# Altium footprint library SPHRD2L3DH20E7W41J.PcbLib: 3 footprints
Each footprint in its own frame and in the unit in brackets; x right, y up, seen from the top. Pads: shape width x height; smd on the part's side, far side on the other; paste and mask are expansions set on the pad; w line width, h text height; cw(c..) or ccw(c..) is an arc to the next point about the centre after c.
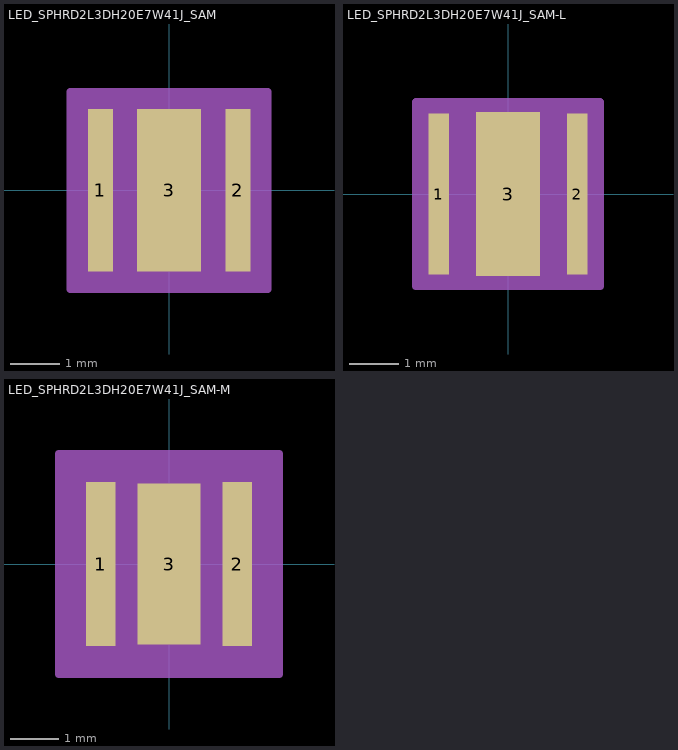
[diagram p0: the footprints below, top view; thin cyan lines are the x and y axes]

## LED_SPHRD2L3DH20E7W41J_SAM [mil]
pads (3):
  rect 20x130 smd paste+0 mask+0: 1(-55,0) 2(55,0)
  rect 51x130 smd paste+0 mask+0: 3(0,0)
Top Paste:
  region: 21.56,61.06 -21.56,61.06 -21.56,3.94 21.56,3.94
  region: 21.56,-3.94 -21.56,-3.94 -21.56,-61.06 21.56,-61.06
Mechanical 13:
  circle w0: c-45,0 r3
  lines w0: -12,69 ccw(c0,69) 12,69
  lines w1: -69,-69 69,-69 69,69 -69,69 -69,-69
Mechanical 15:
  region: -79,-75 -79,75 -79,79 79,79 79,75 79,-75 79,-79 -79,-79
  lines w6: -79,-75 -79,75 ; -79,-75 -79,-75 ; -79,-75 -79,-79 79,-79 79,-75 ; -79,75 -79,75 ; -79,75 -79,79 79,79 79,75 ; 79,-75 79,75 ; 79,-75 79,-75 ; 79,75 79,75
3D body "LED_SPHRD2L3DH20E7W41J_SAM.step": height 81.1, standoff 0, extent -69.02,-69.02 69.02,69.02

## LED_SPHRD2L3DH20E7W41J_SAM-L [mil]
pads (3):
  rect 16x128 smd paste+0 mask+0: 1(-55,0) 2(55,0)
  rect 51x130 smd paste+0 mask+0: 3(0,0)
Top Paste:
  region: 21.56,61.06 -21.56,61.06 -21.56,3.94 21.56,3.94
  region: 21.56,-3.94 -21.56,-3.94 -21.56,-61.06 21.56,-61.06
Mechanical 13:
  circle w0: c-47,0 r3
  lines w0: -12,69 ccw(c0,69) 12,69
  lines w1: -69,-69 69,-69 69,69 -69,69 -69,-69
Mechanical 15:
  region: -73,-68 -73,68 -73,73 73,73 73,68 73,-68 73,-73 -73,-73
  lines w6: -73,-68 -73,68 ; -73,-68 -73,-68 ; -73,-68 -73,-73 73,-73 73,-68 ; -73,68 -73,68 ; -73,68 -73,73 73,73 73,68 ; 73,-68 73,68 ; 73,-68 73,-68 ; 73,68 73,68
3D body "LED_SPHRD2L3DH20E7W41J_SAM.step": height 81.1, standoff 0, extent -69.02,-69.02 69.02,69.02

## LED_SPHRD2L3DH20E7W41J_SAM-M [mil]
pads (3):
  rect 24x132 smd paste+0 mask+0: 1(-55,0) 2(55,0)
  rect 51x130 smd paste+0 mask+0: 3(0,0)
Top Paste:
  region: 21.56,61.06 -21.56,61.06 -21.56,3.94 21.56,3.94
  region: 21.56,-3.94 -21.56,-3.94 -21.56,-61.06 21.56,-61.06
Mechanical 13:
  circle w0: c-43,0 r3
  lines w0: -12,69 ccw(c0,69) 12,69
  lines w1: -69,-69 69,-69 69,69 -69,69 -69,-69
Mechanical 15:
  region: -89,-86 -89,86 -89,89 89,89 89,86 89,-86 89,-89 -89,-89
  lines w6: -89,-86 -89,86 ; -89,-86 -89,-86 ; -89,-86 -89,-89 89,-89 89,-86 ; -89,86 -89,86 ; -89,86 -89,89 89,89 89,86 ; 89,-86 89,86 ; 89,-86 89,-86 ; 89,86 89,86
3D body "LED_SPHRD2L3DH20E7W41J_SAM.step": height 81.1, standoff 0, extent -69.02,-69.02 69.02,69.02